# EAGLE library part MEGA32-P (library evallib)
MICROCONTROLLER 32 Kbytes FLASH 2 Kbytes SRAM 1 Kbytes EEPROM USART 8-channel 10 bit ADC Source: www.atmel.com .. doc2503.pdf
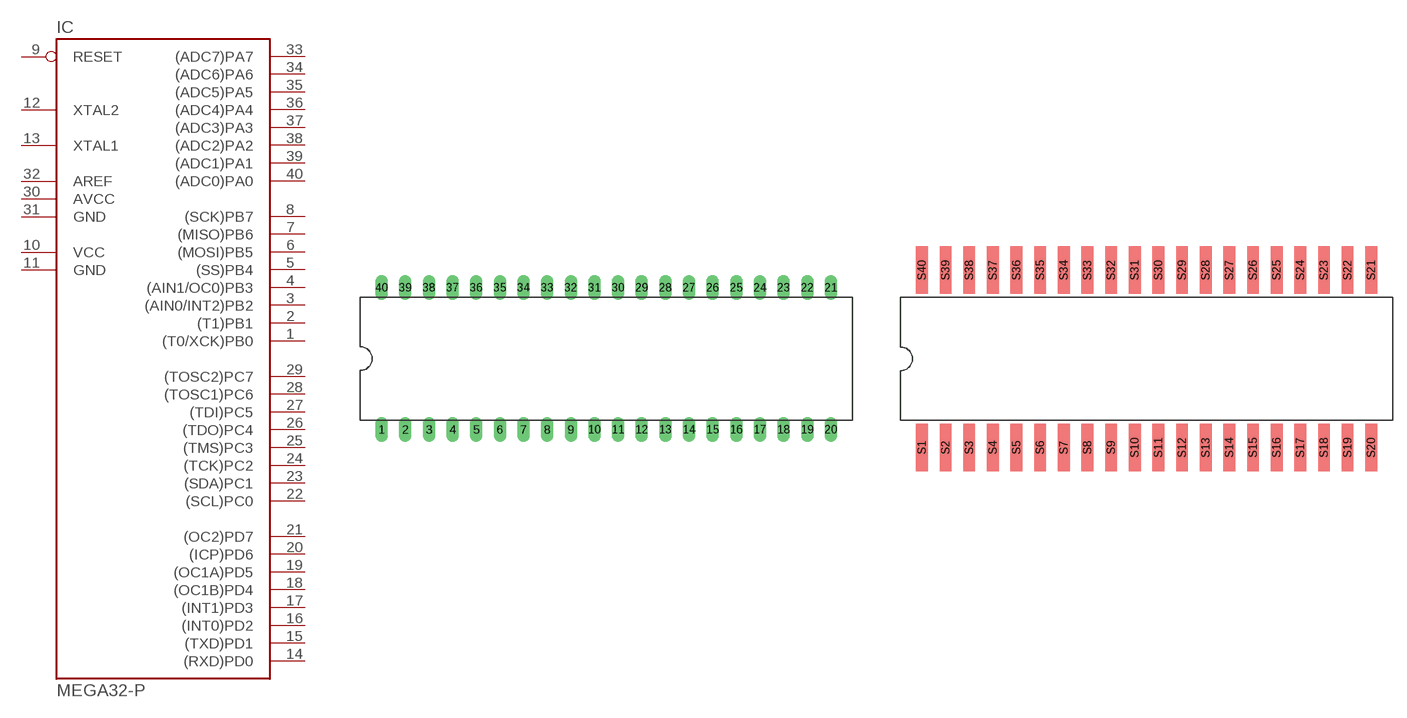
[diagram p2: symbol with the pads of DIL40; footprints DIL40, DIL_SMD_40]

Designator prefix IC

## MEGA32-PPDIP  [DIL40]
1  (T0/XCK)PB0
2  (T1)PB1
3  (AIN0/INT2)PB2
4  (AIN1/OC0)PB3
5  (SS)PB4
6  (MOSI)PB5
7  (MISO)PB6
8  (SCK)PB7
9  RESET  in
10  VCC  pwr
11  GND  pwr
12  XTAL2
13  XTAL1
14  (RXD)PD0
15  (TXD)PD1
16  (INT0)PD2
17  (INT1)PD3
18  (OC1B)PD4
19  (OC1A)PD5
20  (ICP)PD6
21  (OC2)PD7
22  (SCL)PC0
23  (SDA)PC1
24  (TCK)PC2
25  (TMS)PC3
26  (TDO)PC4
27  (TDI)PC5
28  (TOSC1)PC6
29  (TOSC2)PC7
30  AVCC  pwr
31  GND  pwr
32  AREF  pas
33  (ADC7)PA7
34  (ADC6)PA6
35  (ADC5)PA5
36  (ADC4)PA4
37  (ADC3)PA3
38  (ADC2)PA2
39  (ADC1)PA1
40  (ADC0)PA0

## MEGA32-P  [DIL_SMD_40]
S1  (T0/XCK)PB0
S2  (T1)PB1
S3  (AIN0/INT2)PB2
S4  (AIN1/OC0)PB3
S5  (SS)PB4
S6  (MOSI)PB5
S7  (MISO)PB6
S8  (SCK)PB7
S9  RESET  in
S10  VCC  pwr
S11  GND  pwr
S12  XTAL2
S13  XTAL1
S14  (RXD)PD0
S15  (TXD)PD1
S16  (INT0)PD2
S17  (INT1)PD3
S18  (OC1B)PD4
S19  (OC1A)PD5
S20  (ICP)PD6
S21  (OC2)PD7
S22  (SCL)PC0
S23  (SDA)PC1
S24  (TCK)PC2
S25  (TMS)PC3
S26  (TDO)PC4
S27  (TDI)PC5
S28  (TOSC1)PC6
S29  (TOSC2)PC7
S30  AVCC  pwr
S31  GND  pwr
S32  AREF  pas
S33  (ADC7)PA7
S34  (ADC6)PA6
S35  (ADC5)PA5
S36  (ADC4)PA4
S37  (ADC3)PA3
S38  (ADC2)PA2
S39  (ADC1)PA1
S40  (ADC0)PA0

## Footprint DIL40 (pad centres in mm)
Dual In Line
drill 0.813 long: 1 -24.13,-7.62; 2 -21.59,-7.62; 3 -19.05,-7.62; 4 -16.51,-7.62; 5 -13.97,-7.62; 6 -11.43,-7.62; 7 -8.89,-7.62; 8 -6.35,-7.62; 9 -3.81,-7.62; 10 -1.27,-7.62; 11 1.27,-7.62; 12 3.81,-7.62; 13 6.35,-7.62; 14 8.89,-7.62; 15 11.43,-7.62; 16 13.97,-7.62; 17 16.51,-7.62; 18 19.05,-7.62; 19 21.59,-7.62; 20 24.13,-7.62; 21 24.13,7.62; 22 21.59,7.62; 23 19.05,7.62; 24 16.51,7.62; 25 13.97,7.62; 26 11.43,7.62; 27 8.89,7.62; 28 6.35,7.62; 29 3.81,7.62; 30 1.27,7.62; 31 -1.27,7.62; 32 -3.81,7.62; 33 -6.35,7.62; 34 -8.89,7.62; 35 -11.43,7.62; 36 -13.97,7.62; 37 -16.51,7.62; 38 -19.05,7.62; 39 -21.59,7.62; 40 -24.13,7.62

## Footprint DIL_SMD_40 (pad centres in mm)
Dual In Line
smd 1.27 x 5.08: S1 -24.13,-9.525; S2 -21.59,-9.525; S3 -19.05,-9.525; S4 -16.51,-9.525; S5 -13.97,-9.525; S6 -11.43,-9.525; S7 -8.89,-9.525; S8 -6.35,-9.525; S9 -3.81,-9.525; S10 -1.27,-9.525; S11 1.27,-9.525; S12 3.81,-9.525; S13 6.35,-9.525; S14 8.89,-9.525; S15 11.43,-9.525; S16 13.97,-9.525; S17 16.51,-9.525; S18 19.05,-9.525; S19 21.59,-9.525; S20 24.13,-9.525; S21 24.13,9.525; S22 21.59,9.525; S23 19.05,9.525; S24 16.51,9.525; S25 13.97,9.525; S26 11.43,9.525; S27 8.89,9.525; S28 6.35,9.525; S29 3.81,9.525; S30 1.27,9.525; S31 -1.27,9.525; S32 -3.81,9.525; S33 -6.35,9.525; S34 -8.89,9.525; S35 -11.43,9.525; S36 -13.97,9.525; S37 -16.51,9.525; S38 -19.05,9.525; S39 -21.59,9.525; S40 -24.13,9.525